# EAGLE library part GAUGES (library unicorn)
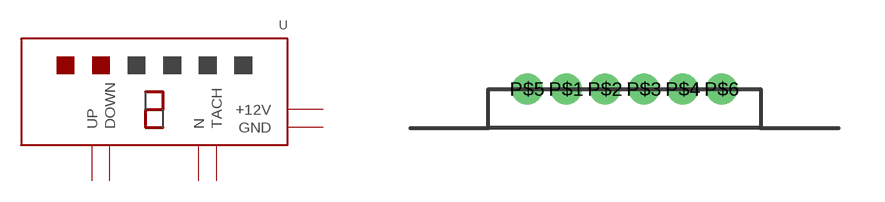
[diagram p4: symbol with the pads of SYSTEM-6; footprint SYSTEM-6]

Designator prefix -

## GAUGES  [SYSTEM-6]
P$1  +12V  pwr
P$2  DOWN  in
P$3  GND  pwr
P$4  N  in
P$5  TACH  in
P$6  UP  in

## Footprint SYSTEM-6 (pad centres in mm)
drill 0.5 round: P$1 -1.27,0; P$2 0,0; P$3 1.27,0; P$4 2.54,0; P$5 -2.54,0; P$6 3.81,0